# EAGLE library part PS_TPS735 (library 0-micromouse2019)
500mA, Low Quiescent Current, Ultra-Low Noise, High PSRR Low Dropout Linear Regulator
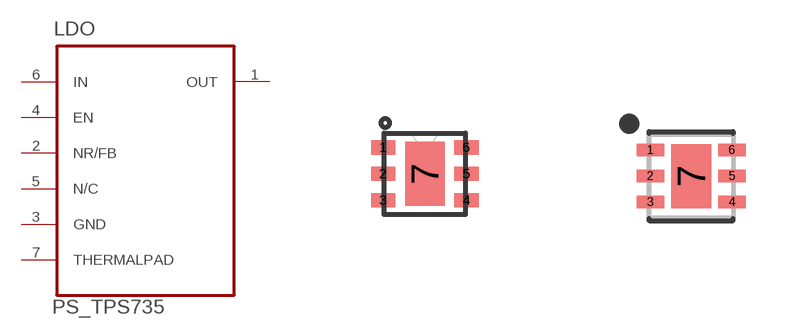
[diagram p4: symbol with the pads of SON65P210X210X80-7N; footprints SON65P210X210X80-7N, SON65P200X200X80-7T100X160]

Designator prefix LDO

## PS_TPS735DRVT_OBSOLETE, PS_TPS73533DRVT_OBSOLETE (MF: Texas Instruments; MP: TPS73533DRVT; PACKAGE: SON-6 Texas Instruments)  [SON65P210X210X80-7N]
1  OUT  pwr
2  NR/FB  in
3  GND  pas
4  EN  in
5  N/C  nc
6  IN  pwr
7  THERMALPAD  pas

## PS_TPS735DRVT  [SON65P200X200X80-7T100X160]
Pads as for SON65P210X210X80-7N

## Footprint SON65P210X210X80-7N (pad centres in mm)
SON-6 package from TI.
smd 0.61 x 0.356: 1 -1.041,0.66; 2 -1.041,0; 3 -1.041,-0.66; 4 1.041,-0.66; 5 1.041,0; 6 1.041,0.66
smd 0.991 x 1.6: 7 0,0

## Footprint SON65P200X200X80-7T100X160 (pad centres in mm)
6-SON, 0.65 mm pitch, 2.00 X 2.00 X 0.80 mm body, 1.60 X 1.00 mm thermal pad 6-pin SON package with 0.65 mm pitch with body size 2.00 X 2.00 X 0.80 mm and thermal pad size 1.60 X 1.00 mm
smd 0.688 x 0.32: 1 -1.021,0.65; 2 -1.021,0; 3 -1.021,-0.65; 4 1.021,-0.65; 5 1.021,0; 6 1.021,0.65
smd 1 x 1.6: 7 0,0